# Altium schematic symbol library CAP(100n, 0603, 10V, CER, X7R).SchLib: 1 symbol
Pins are listed as number, name and electrical type; pins without a type are passive.

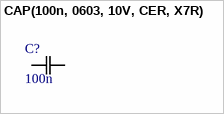
[diagram p0: symbol CAP(100n, 0603, 10V, CER, X7R)]

## CAP(100n, 0603, 10V, CER, X7R)
designator C?, comment 100n
CAP(100n, 0603, 10V, CER, X7R); Manufacturer: Kemet; Manufacturer_PN: C0603C104K8RACTU; Datasheet: https://content.kemet.com/datasheets/KEM_C1002_X7R_SMD.pdf; Digikey_Link: https://www.digikey.it/en/products/detail/kemet/C0603C104K8RACTU/411094; Package: 0603
footprint CAPC17595_95N_KEM
pins: 1, 2